# Altium schematic symbol library PMIC - Battery Chargers.SchLib: 2 symbols
Pins are listed as number, name and electrical type; pins without a type are passive.

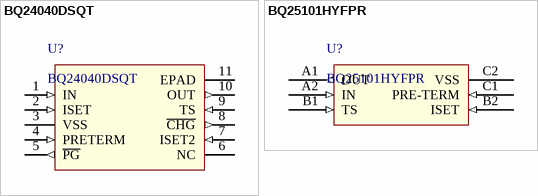
[diagram p0: symbols BQ24040DSQT to BQ25101HYFPR]

## BQ24040DSQT
designator U?
IC BATT CHG LI-ION 1 CELL 10SON; Manufacturer: Texas Instruments; Battery Chemistry: Lithium-Ion/Polymer; Number of Cells: 1; Current - Charging: Constant - Programmable; Programmable Features: Current; Fault Protection: Over Temperature, Over Voltage, Short Circuit; Charge Current - Max: 1A; Battery Pack Voltage: 4.2V; Voltage - Supply (Max): 28V; Supplier 1: Digi-Key; Supplier Part Number 1: 296-25136-1-ND; Manufacturer Part Number: BQ24040DSQT; RoHS: RoHS Compliant; Category: Integrated Circuits (ICs); Stock 1: 2838; Pricing 1: 1=1.48, 10=1.322, 100=1.0305 (USD); Packaging: Cut Tape (CT); Part Status: Active; Interface: -; Operating Temperature: -40°C ~ 85°C (TA); Supplier Device Package: 10-SON (2x2); ComponentLink1URL: http://www.ti.com/lit/ds/symlink/bq24040.pdf; ComponentLink1Description: http://www.ti.com/lit/ds/symlink/bq24040.pdf; Package: 10-WFDFN Exposed Pad
footprint WFDFN-10 Exposed Pad
pins: 1 IN (in), 2 ISET (in), 3 VSS (power), 4 PRETERM (in), 5 ~{PG} (out), 6 NC, 7 ISET2 (in), 8 ~{CHG} (out), 9 TS (in), 10 OUT (out), 11 EPAD (power)

## BQ25101HYFPR
designator U?
IC LI-ION CHARGE MGMT; Manufacturer: Texas Instruments; Battery Chemistry: Lithium-Ion/Polymer; Number of Cells: 1; Current - Charging: Constant - Programmable; Programmable Features: Current; Fault Protection: Over Temperature, Over Voltage, Short Circuit; Charge Current - Max: 250mA; Battery Pack Voltage: 4.35V; Voltage - Supply (Max): 6.45V; Supplier 1: Digi-Key; Supplier Part Number 1: 296-39932-1-ND; Manufacturer Part Number: BQ25101HYFPR; RoHS: RoHS Compliant; Category: Integrated Circuits (ICs); Stock 1: 6025; Pricing 1: 1=2.05, 10=1.842, 100=1.4809, 500=1.21668, 1000=1.00811 (USD); Packaging: Cut Tape (CT); Part Status: Active; Interface: -; Operating Temperature: 0°C ~ 125°C (TJ); Supplier Device Package: 6-DSBGA; ComponentLink1URL: http://www.ti.com/lit/ds/symlink/bq25101h.pdf; ComponentLink1Description: http://www.ti.com/lit/ds/symlink/bq25101h.pdf; Package: 6-XFBGA, DSBGA
footprint YFP6
pins: A1 OUT (out), A2 IN (in), B1 TS (in), B2 ISET (in), C1 PRE-TERM (in), C2 VSS (power)